# Altium footprint library Fedor's_pcb.PcbLib: 174 footprints (part 3 of 14)
Each footprint in its own frame and in the unit in brackets; x right, y up, seen from the top. Pads: shape width x height; smd on the part's side, far side on the other; paste and mask are expansions set on the pad; w line width, h text height; cw(c..) or ccw(c..) is an arc to the next point about the centre after c.
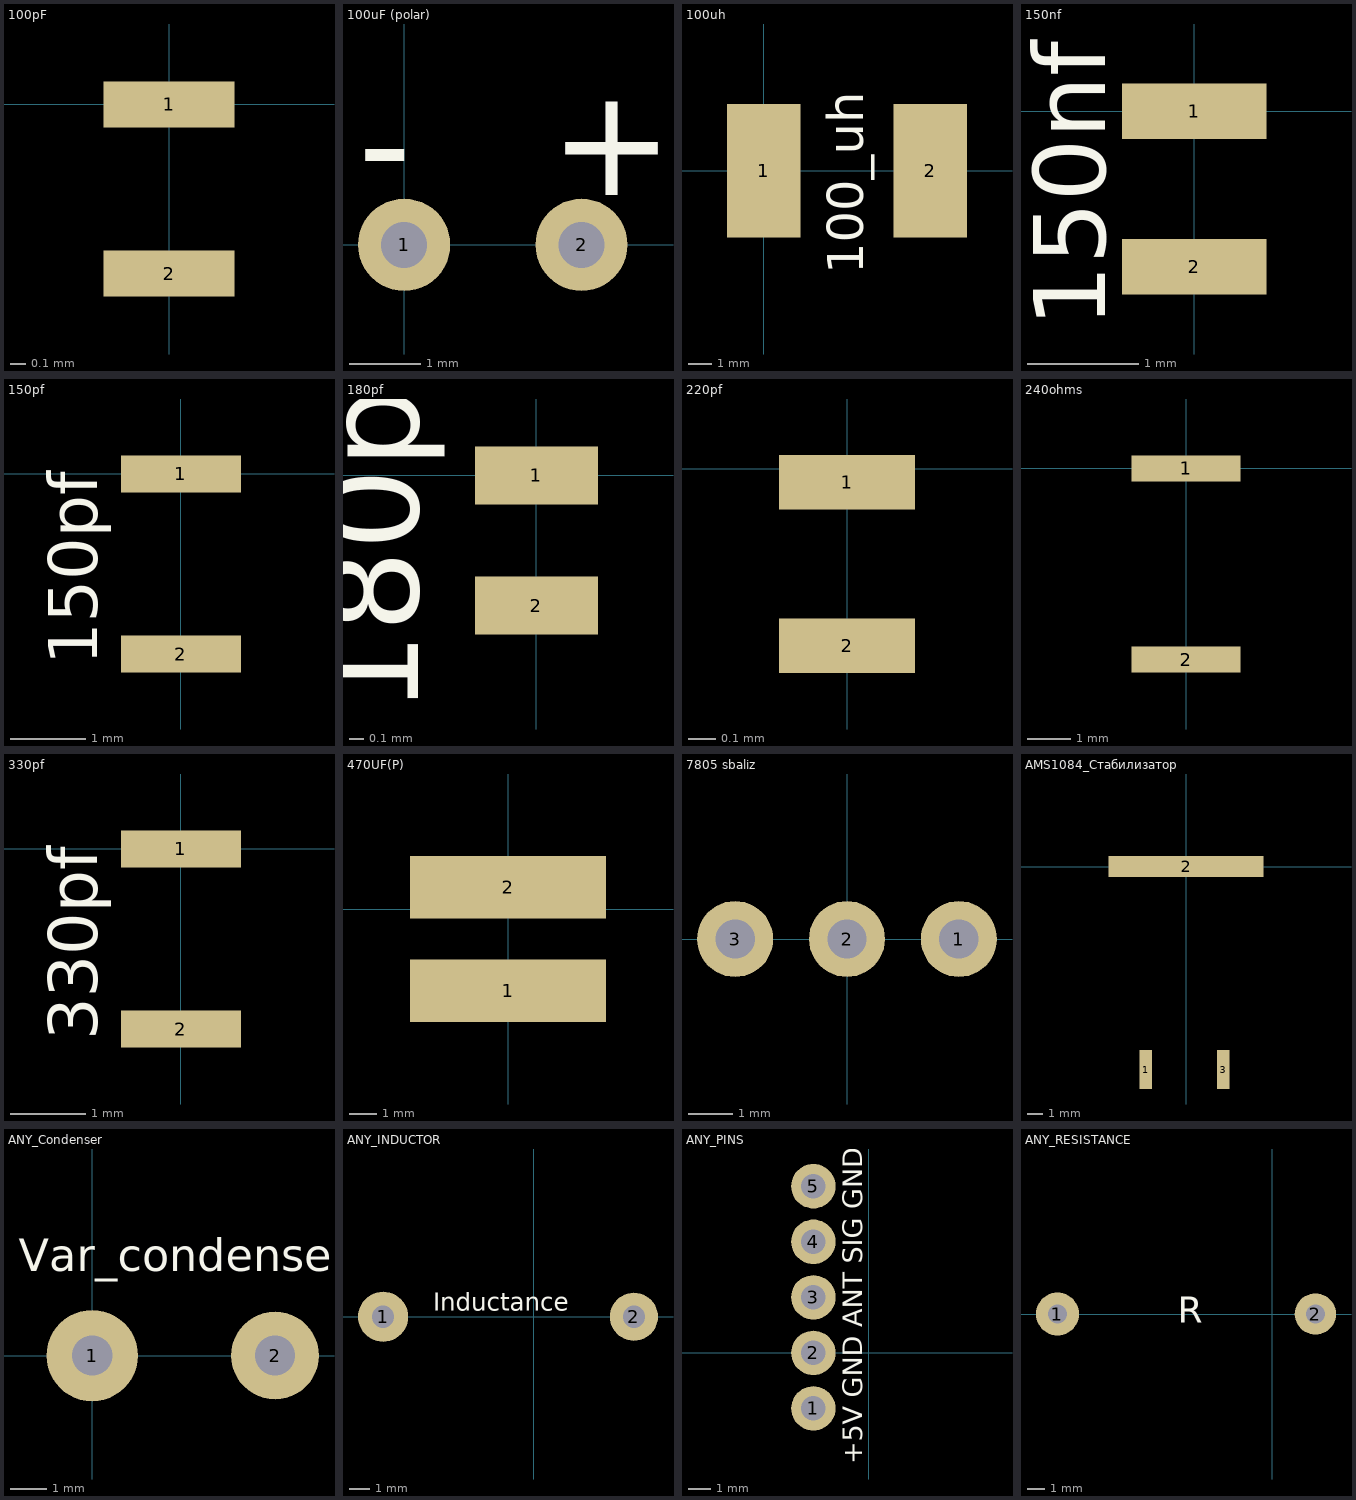
[diagram p2: the footprints below, top view; thin cyan lines are the x and y axes]

## 100pF [mm]
pads (2):
  rect 0.85x0.3 smd: 1(0,0) 2(0,-1.1)
3D body "100pF.stp": height 0.47, standoff 0.01, extent -0.425,-1.333 0.425,0.267

## 100uF (polar) [mm]
pads (2):
  round 1.3 hole 0.65: 1(0,0) 2(2.5,0)
Top Overlay:
  text "+" at 2.054,0.7 h1.52
  text "-" at -0.646,0.692 h1.52

## 100uh [mm]
pads (2):
  rect 3.1x5.6 smd: 1(0,0) 2(7,0)
Top Overlay:
  text "100_uh" at 4.192,-4.346 h1.52

## 150nf [mm]
pads (2):
  rect 1.3x0.5 smd: 1(0,0) 2(0,-1.4)
Top Overlay:
  text "150nf" at -0.8,-1.95 h0.65

## 150pf [mm]
pads (2):
  rect 1.6x0.5 smd: 1(0,0) 2(0,-2.4)
Top Overlay:
  text "150pf" at -1.117,-2.55 h0.65

## 180pf [mm]
pads (2):
  rect 0.85x0.4 smd: 1(0,0) 2(0,-0.9)
Top Overlay:
  text "180pf" at -0.817,-1.65 h0.65

## 220pf [mm] "Типоразмер EIA 0402"
pads (2):
  rect 0.5x0.2 smd: 1(0,-0.05) 2(0,-0.65)
3D body "220pF.stp": height 0.36, standoff 0, extent -0.254,-0.856 0.246,0.144

## 240ohms [mm] "https://www.chipdip.ru/product0/8033824025. 3430H2F240RTDF, 240 Ohms ±1% 2W Chip Resistor Wide 2010 (5025 Metric), 1020 Automotive AEC-Q200 Thick Film"
pads (2):
  rect 2.5x0.6 smd mask+0.05: 1(0,0) 2(0,-4.4)

## 330pf [mm]
pads (2):
  rect 1.6x0.5 smd: 1(0,0) 2(0,-2.4)
Top Overlay:
  text "330pf" at -1.117,-2.55 h0.65

## 470UF(P) [mm] "597D477X9016H2T, Tantalum Capacitors - Solid SMD 470uF 16volts 10% H Case Conformal"
pads (2):
  rect 7.2x2.3 smd mask+0.1: 1(0,-3) 2(0,0.8)
3D body "597D_H-case.stp": height 5.25, standoff 0.04, extent -3.1,-5.8 3.504,2.201

## 7805 sbaliz [mm]
pads (3):
  round 1.7 hole 0.88: 1(2.5,0) 2(0,0) 3(-2.5,0)

## AMS1084_Стабилизатор [mm]
pads (3):
  rect 0.8x2.5 smd mask+0.05: 1(-2.6,-13.1) 3(2.4,-13.1)
  rect 10x1.37 smd mask+0.05: 2(0,0)

## ANY_Condenser [mm] "For different conditions"
pads (2):
  round 2.5 hole 1.1: 1(0,0)
  round 2.4 hole 1.1: 2(5,0)
Top Overlay:
  text "Var_condenser" at -2,2 h1.52

## ANY_INDUCTOR [mm]
pads (2):
  round 2.5 hole 1.1: 1(-7.5,0)
  round 2.4 hole 1.1: 2(5,0)
Top Overlay:
  text "Inductance" at -5,0 h1.52

## ANY_PINS [mm]
pads (5):
  round 2 hole 1.1: 1(-2.5,-2.5) 2(-2.5,0) 3(-2.5,2.5) 4(-2.5,5) 5(-2.5,7.5)
Top Overlay:
  text "+5V GND ANT SIG GND" at 0,-5 h1.52

## ANY_RESISTANCE [mm]
pads (2):
  round 2.5 hole 1.1: 1(-12.5,0)
  round 2.4 hole 1.1: 2(2.5,0)
Top Overlay:
  text "R" at -5.5,-0.5 h1.52